# Altium footprint library Kalih.PcbLib: 3 footprints
Each footprint in its own frame and in the unit in brackets; x right, y up, seen from the top. Pads: shape width x height; smd on the part's side, far side on the other; paste and mask are expansions set on the pad; w line width, h text height; cw(c..) or ccw(c..) is an arc to the next point about the centre after c.
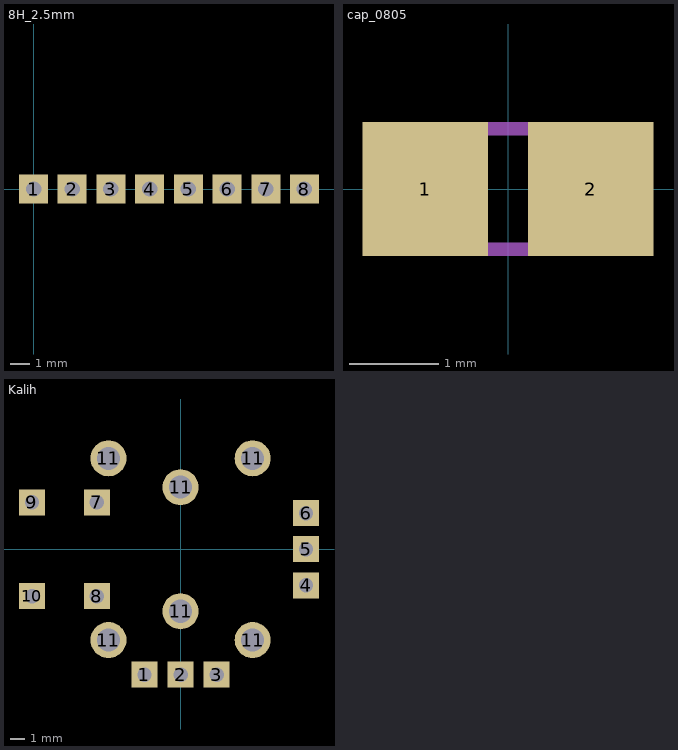
[diagram p0: the footprints below, top view; thin cyan lines are the x and y axes]

## 8H_2.5mm [mm]
pads (8):
  rect 1.5x1.5 hole 0.8: 1(0,0) 2(2,0) 3(4,0) 4(6,0) 5(8,0) 6(10,0) 7(12,0) 8(14,0)

## cap_0805 [mm]
height 1.35
pads (2):
  rect 1.4x1.5 smd: 1(-0.925,0) 2(0.925,0)
Mechanical 5:
  lines w0.15: -1.05,-0.675 1.05,-0.675 1.05,0.675 -1.05,0.675 -1.05,-0.675
  text ".Designator" at -0.8,-0.3 h1
3D body: height 1.35, standoff 0, extent 0.6,-0.675 1.05,0.675
3D body: height 1.35, standoff 0, extent -1.05,-0.675 -0.6,0.675
3D body: height 1.35, standoff 0, extent -0.6,-0.675 0.6,0.675

## Kalih [mm]
pads (16):
  rect 1.8x1.8 hole 1: 1(-2.5,-8.7) 2(0,-8.7) 3(2.5,-8.7) 4(8.7,-2.5) 5(8.7,0) 6(8.7,2.5) 7(-5.8,3.25) 8(-5.8,-3.25) 9(-10.3,3.25) 10(-10.3,-3.25)
  round 2.5 hole 1.6: 11(-5,-6.3) 11(-5,6.3) 11(5,-6.3) 11(5,6.3)
  round 2.5 hole 1.6 unplated: 11(0,-4.3) 11(0,4.3)